# Altium integrated library ISSI SRAM Asynchronous SRAM High Speed Low Power.IntLib: 413 symbols (part 8 of 21)
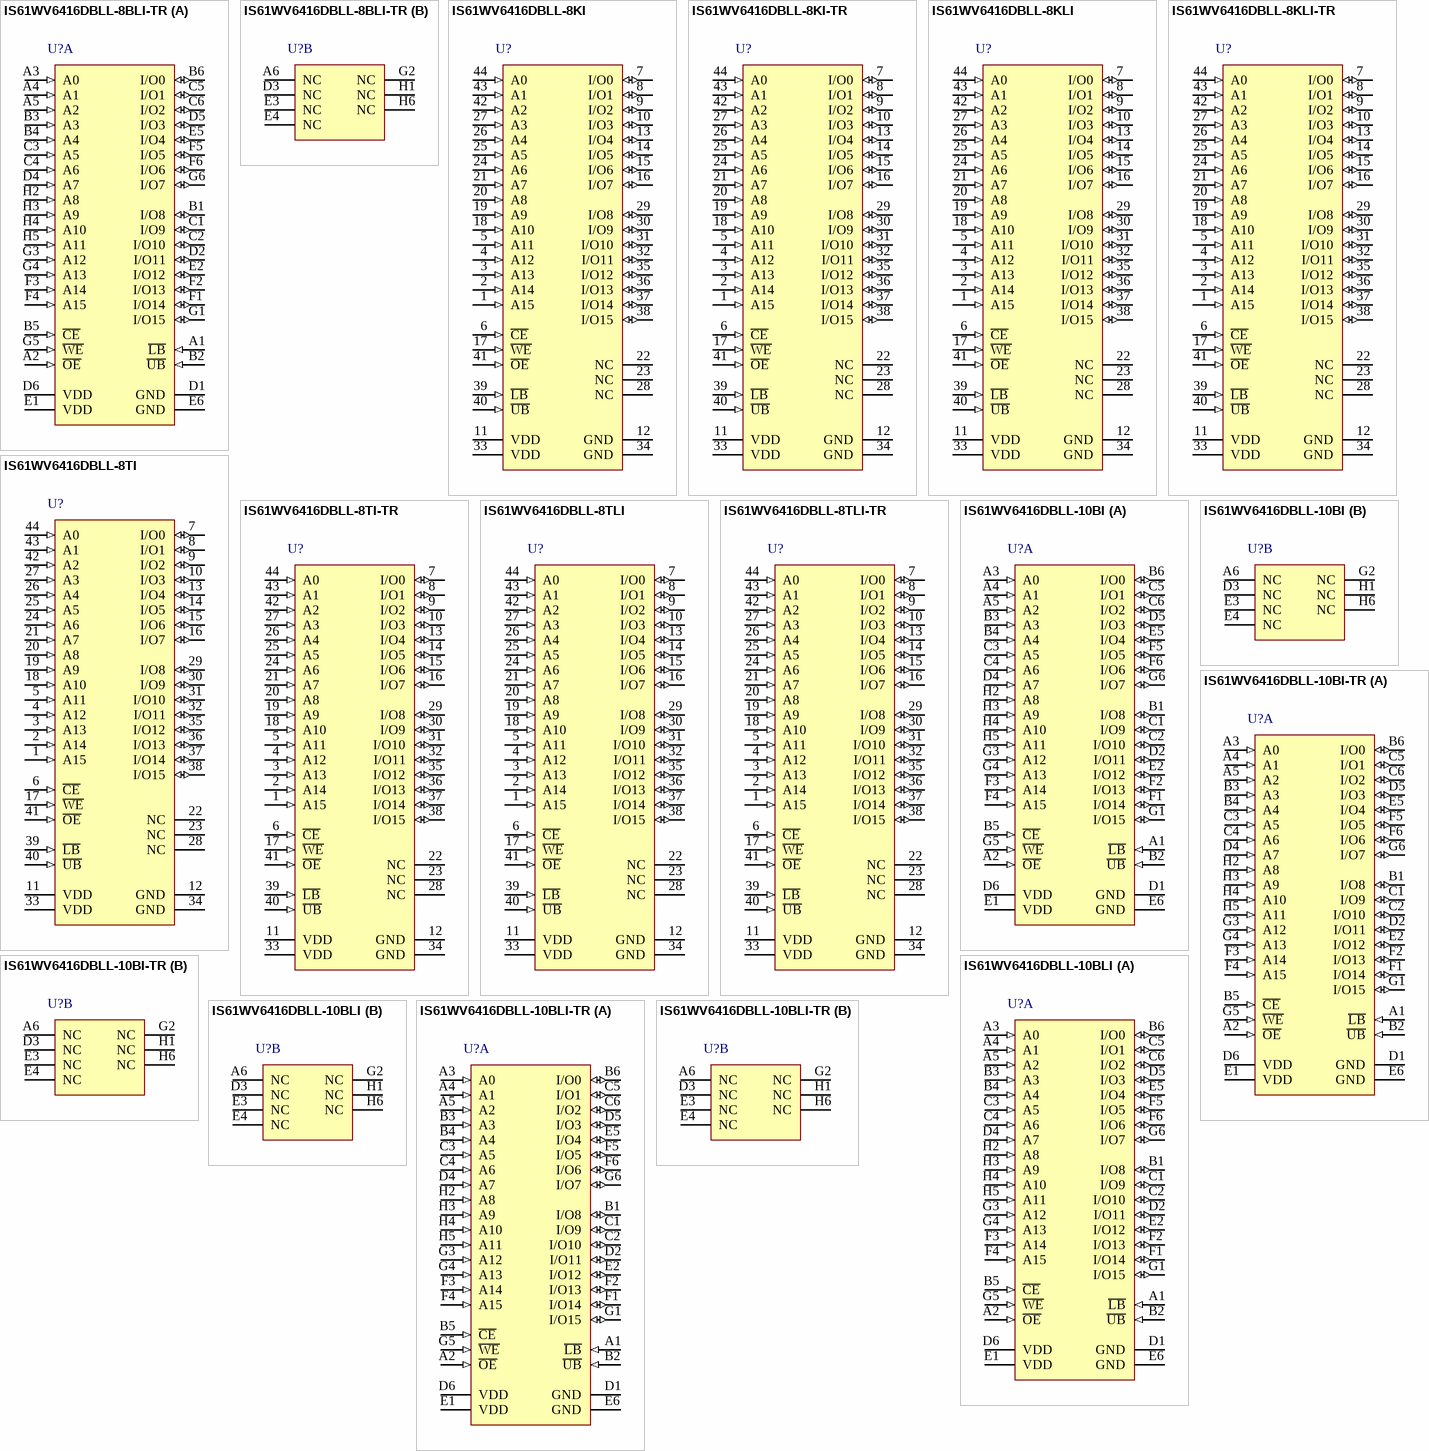
[diagram p35: symbols IS61WV6416DBLL-8BLI-TR to IS61WV6416DBLL-10BLI-TR]

## IS61WV6416DBLL-10BI
designator U?
1 M High Speed Asynchronous CMOS SRAM, 64 K x 16, -40 to 85 degC, 48-Pin BGA (TF-BGA-48); Manufacturer: Integrated Silicon Solution Inc (ISSI); PartNumber: IS61WV6416DBLL-10BI; Density: 1M; Organization: 64K x 16; Packing: Tray / Tube; Speed (ns): 10; DatasheetVersion: Rev. A; PackageVersion: Rev. C, 08/2008; PackageReference: TF-BGA-48; PackageDescription: 48-Pin 6 x 8 mm TF-BGA, Pitch 0.75 mm; Mounting Technology: Surface Mount; Code_JEDEC: MO-207; ComponentLink1Description: Manufacturer URL; ComponentLink1URL: http://www.issi.com/US/index.shtml; ComponentLink2Description: Datasheet; ComponentLink2URL: http://www.issi.com/WW/pdf/61-64WV6416DAxx-DBxx.pdf; ComponentLink3Description: Package Specification; ComponentLink3URL: http://www.issi.com/WW/pdf/61-64WV25616.pdf
footprint ISSI-TF-BGA-48-6000X8000DE (BGA, 48-Balls, Body 8x6mm, Pitch 0.75mm)
part A pins: A1 ~{LB} (in) "Lower-byte Control (I/O0-I/O7)", A2 ~{OE} (in) "Output Enable Input", A3 A0 (in) "Address Input", A4 A1 (in) "Address Input", A5 A2 (in) "Address Input", B1 I/O8 (io) "Data Input/Output", B2 ~{UB} (in) "Upper-byte Control (I/O8-I/O15)", B3 A3 (in) "Address Input", B4 A4 (in) "Address Input", B5 ~{CE} (in) "Chip Enable Input", B6 I/O0 (io) "Data Input/Output", C1 I/O9 (io) "Data Input/Output", C2 I/O10 (io) "Data Input/Output", C3 A5 (in) "Address Input", C4 A6 (in) "Address Input", C5 I/O1 (io) "Data Input/Output", C6 I/O2 (io) "Data Input/Output", D1 GND (power) "Ground", D2 I/O11 (io) "Data Input/Output", D4 A7 (in) "Address Input", D5 I/O3 (io) "Data Input/Output", D6 VDD (power) "Power", E1 VDD (power) "Power", E2 I/O12 (io) "Data Input/Output", E5 I/O4 (io) "Data Input/Output", E6 GND (power) "Ground", F1 I/O14 (io) "Data Input/Output", F2 I/O13 (io) "Data Input/Output", F3 A14 (in) "Address Input", F4 A15 (in) "Address Input", F5 I/O5 (io) "Data Input/Output", F6 I/O6 (io) "Data Input/Output", G1 I/O15 (io) "Data Input/Output", G3 A12 (in) "Address Input", G4 A13 (in) "Address Input", G5 ~{WE} (in) "Write Enable Input", G6 I/O7 (io) "Data Input/Output", H2 A8 (in) "Address Input", H3 A9 (in) "Address Input", H4 A10 (in) "Address Input", H5 A11 (in) "Address Input"
part B pins: A6 NC "No Connection", D3 NC "No Connection", E3 NC "No Connection", E4 NC "No Connection", G2 NC "No Connection", H1 NC "No Connection", H6 NC "No Connection"

## IS61WV6416DBLL-10BI-TR
designator U?
1 M High Speed Asynchronous CMOS SRAM, 64 K x 16, -40 to 85 degC, 48-Pin BGA (TF-BGA-48); Manufacturer: Integrated Silicon Solution Inc (ISSI); PartNumber: IS61WV6416DBLL-10BI-TR; Density: 1M; Organization: 64K x 16; Packing: Tape & Reel; Speed (ns): 10; DatasheetVersion: Rev. A; PackageVersion: Rev. C, 08/2008; PackageReference: TF-BGA-48; PackageDescription: 48-Pin 6 x 8 mm TF-BGA, Pitch 0.75 mm; Mounting Technology: Surface Mount; Code_JEDEC: MO-207; ComponentLink1Description: Manufacturer URL; ComponentLink1URL: http://www.issi.com/US/index.shtml; ComponentLink2Description: Datasheet; ComponentLink2URL: http://www.issi.com/WW/pdf/61-64WV6416DAxx-DBxx.pdf; ComponentLink3Description: Package Specification; ComponentLink3URL: http://www.issi.com/WW/pdf/61-64WV25616.pdf
footprint ISSI-TF-BGA-48-6000X8000DE (BGA, 48-Balls, Body 8x6mm, Pitch 0.75mm)
part A pins: A1 ~{LB} (in) "Lower-byte Control (I/O0-I/O7)", A2 ~{OE} (in) "Output Enable Input", A3 A0 (in) "Address Input", A4 A1 (in) "Address Input", A5 A2 (in) "Address Input", B1 I/O8 (io) "Data Input/Output", B2 ~{UB} (in) "Upper-byte Control (I/O8-I/O15)", B3 A3 (in) "Address Input", B4 A4 (in) "Address Input", B5 ~{CE} (in) "Chip Enable Input", B6 I/O0 (io) "Data Input/Output", C1 I/O9 (io) "Data Input/Output", C2 I/O10 (io) "Data Input/Output", C3 A5 (in) "Address Input", C4 A6 (in) "Address Input", C5 I/O1 (io) "Data Input/Output", C6 I/O2 (io) "Data Input/Output", D1 GND (power) "Ground", D2 I/O11 (io) "Data Input/Output", D4 A7 (in) "Address Input", D5 I/O3 (io) "Data Input/Output", D6 VDD (power) "Power", E1 VDD (power) "Power", E2 I/O12 (io) "Data Input/Output", E5 I/O4 (io) "Data Input/Output", E6 GND (power) "Ground", F1 I/O14 (io) "Data Input/Output", F2 I/O13 (io) "Data Input/Output", F3 A14 (in) "Address Input", F4 A15 (in) "Address Input", F5 I/O5 (io) "Data Input/Output", F6 I/O6 (io) "Data Input/Output", G1 I/O15 (io) "Data Input/Output", G3 A12 (in) "Address Input", G4 A13 (in) "Address Input", G5 ~{WE} (in) "Write Enable Input", G6 I/O7 (io) "Data Input/Output", H2 A8 (in) "Address Input", H3 A9 (in) "Address Input", H4 A10 (in) "Address Input", H5 A11 (in) "Address Input"
part B pins: A6 NC "No Connection", D3 NC "No Connection", E3 NC "No Connection", E4 NC "No Connection", G2 NC "No Connection", H1 NC "No Connection", H6 NC "No Connection"

## IS61WV6416DBLL-10BLI
designator U?
1 M High Speed Asynchronous CMOS SRAM, 64 K x 16, -40 to 85 degC, 48-Pin BGA (TF-BGA-48), Pb-Free; Manufacturer: Integrated Silicon Solution Inc (ISSI); PartNumber: IS61WV6416DBLL-10BLI; Density: 1M; Organization: 64K x 16; Packing: Tray / Tube; Speed (ns): 10; DatasheetVersion: Rev. A; PackageVersion: Rev. C, 08/2008; PackageReference: TF-BGA-48; PackageDescription: 48-Pin 6 x 8 mm TF-BGA, Pitch 0.75 mm; Supplier 1: Mouser; Supplier Part Number 1: 870-61WV646DBLL10BLI; RoHS: Pb-Free; Mounting Technology: Surface Mount; Code_JEDEC: MO-207; ComponentLink1Description: Manufacturer URL; ComponentLink1URL: http://www.issi.com/US/index.shtml; ComponentLink2Description: Datasheet; ComponentLink2URL: http://www.issi.com/WW/pdf/61-64WV6416DAxx-DBxx.pdf; ComponentLink3Description: Package Specification; ComponentLink3URL: http://www.issi.com/WW/pdf/61-64WV25616.pdf
footprint ISSI-TF-BGA-48-6000X8000DE (BGA, 48-Balls, Body 8x6mm, Pitch 0.75mm)
part A pins: A1 ~{LB} (in) "Lower-byte Control (I/O0-I/O7)", A2 ~{OE} (in) "Output Enable Input", A3 A0 (in) "Address Input", A4 A1 (in) "Address Input", A5 A2 (in) "Address Input", B1 I/O8 (io) "Data Input/Output", B2 ~{UB} (in) "Upper-byte Control (I/O8-I/O15)", B3 A3 (in) "Address Input", B4 A4 (in) "Address Input", B5 ~{CE} (in) "Chip Enable Input", B6 I/O0 (io) "Data Input/Output", C1 I/O9 (io) "Data Input/Output", C2 I/O10 (io) "Data Input/Output", C3 A5 (in) "Address Input", C4 A6 (in) "Address Input", C5 I/O1 (io) "Data Input/Output", C6 I/O2 (io) "Data Input/Output", D1 GND (power) "Ground", D2 I/O11 (io) "Data Input/Output", D4 A7 (in) "Address Input", D5 I/O3 (io) "Data Input/Output", D6 VDD (power) "Power", E1 VDD (power) "Power", E2 I/O12 (io) "Data Input/Output", E5 I/O4 (io) "Data Input/Output", E6 GND (power) "Ground", F1 I/O14 (io) "Data Input/Output", F2 I/O13 (io) "Data Input/Output", F3 A14 (in) "Address Input", F4 A15 (in) "Address Input", F5 I/O5 (io) "Data Input/Output", F6 I/O6 (io) "Data Input/Output", G1 I/O15 (io) "Data Input/Output", G3 A12 (in) "Address Input", G4 A13 (in) "Address Input", G5 ~{WE} (in) "Write Enable Input", G6 I/O7 (io) "Data Input/Output", H2 A8 (in) "Address Input", H3 A9 (in) "Address Input", H4 A10 (in) "Address Input", H5 A11 (in) "Address Input"
part B pins: A6 NC "No Connection", D3 NC "No Connection", E3 NC "No Connection", E4 NC "No Connection", G2 NC "No Connection", H1 NC "No Connection", H6 NC "No Connection"

## IS61WV6416DBLL-10BLI-TR
designator U?
1 M High Speed Asynchronous CMOS SRAM, 64 K x 16, -40 to 85 degC, 48-Pin BGA (TF-BGA-48), Pb-Free; Manufacturer: Integrated Silicon Solution Inc (ISSI); PartNumber: IS61WV6416DBLL-10BLI-TR; Density: 1M; Organization: 64K x 16; Packing: Tape & Reel; Speed (ns): 10; DatasheetVersion: Rev. A; PackageVersion: Rev. C, 08/2008; PackageReference: TF-BGA-48; PackageDescription: 48-Pin 6 x 8 mm TF-BGA, Pitch 0.75 mm; Supplier 1: Mouser; Supplier Part Number 1: 870-61WV66DBLL10BLIT; RoHS: Pb-Free; Mounting Technology: Surface Mount; Code_JEDEC: MO-207; ComponentLink1Description: Manufacturer URL; ComponentLink1URL: http://www.issi.com/US/index.shtml; ComponentLink2Description: Datasheet; ComponentLink2URL: http://www.issi.com/WW/pdf/61-64WV6416DAxx-DBxx.pdf; ComponentLink3Description: Package Specification; ComponentLink3URL: http://www.issi.com/WW/pdf/61-64WV25616.pdf
footprint ISSI-TF-BGA-48-6000X8000DE (BGA, 48-Balls, Body 8x6mm, Pitch 0.75mm)
part A pins: A1 ~{LB} (in) "Lower-byte Control (I/O0-I/O7)", A2 ~{OE} (in) "Output Enable Input", A3 A0 (in) "Address Input", A4 A1 (in) "Address Input", A5 A2 (in) "Address Input", B1 I/O8 (io) "Data Input/Output", B2 ~{UB} (in) "Upper-byte Control (I/O8-I/O15)", B3 A3 (in) "Address Input", B4 A4 (in) "Address Input", B5 ~{CE} (in) "Chip Enable Input", B6 I/O0 (io) "Data Input/Output", C1 I/O9 (io) "Data Input/Output", C2 I/O10 (io) "Data Input/Output", C3 A5 (in) "Address Input", C4 A6 (in) "Address Input", C5 I/O1 (io) "Data Input/Output", C6 I/O2 (io) "Data Input/Output", D1 GND (power) "Ground", D2 I/O11 (io) "Data Input/Output", D4 A7 (in) "Address Input", D5 I/O3 (io) "Data Input/Output", D6 VDD (power) "Power", E1 VDD (power) "Power", E2 I/O12 (io) "Data Input/Output", E5 I/O4 (io) "Data Input/Output", E6 GND (power) "Ground", F1 I/O14 (io) "Data Input/Output", F2 I/O13 (io) "Data Input/Output", F3 A14 (in) "Address Input", F4 A15 (in) "Address Input", F5 I/O5 (io) "Data Input/Output", F6 I/O6 (io) "Data Input/Output", G1 I/O15 (io) "Data Input/Output", G3 A12 (in) "Address Input", G4 A13 (in) "Address Input", G5 ~{WE} (in) "Write Enable Input", G6 I/O7 (io) "Data Input/Output", H2 A8 (in) "Address Input", H3 A9 (in) "Address Input", H4 A10 (in) "Address Input", H5 A11 (in) "Address Input"
part B pins: A6 NC "No Connection", D3 NC "No Connection", E3 NC "No Connection", E4 NC "No Connection", G2 NC "No Connection", H1 NC "No Connection", H6 NC "No Connection"

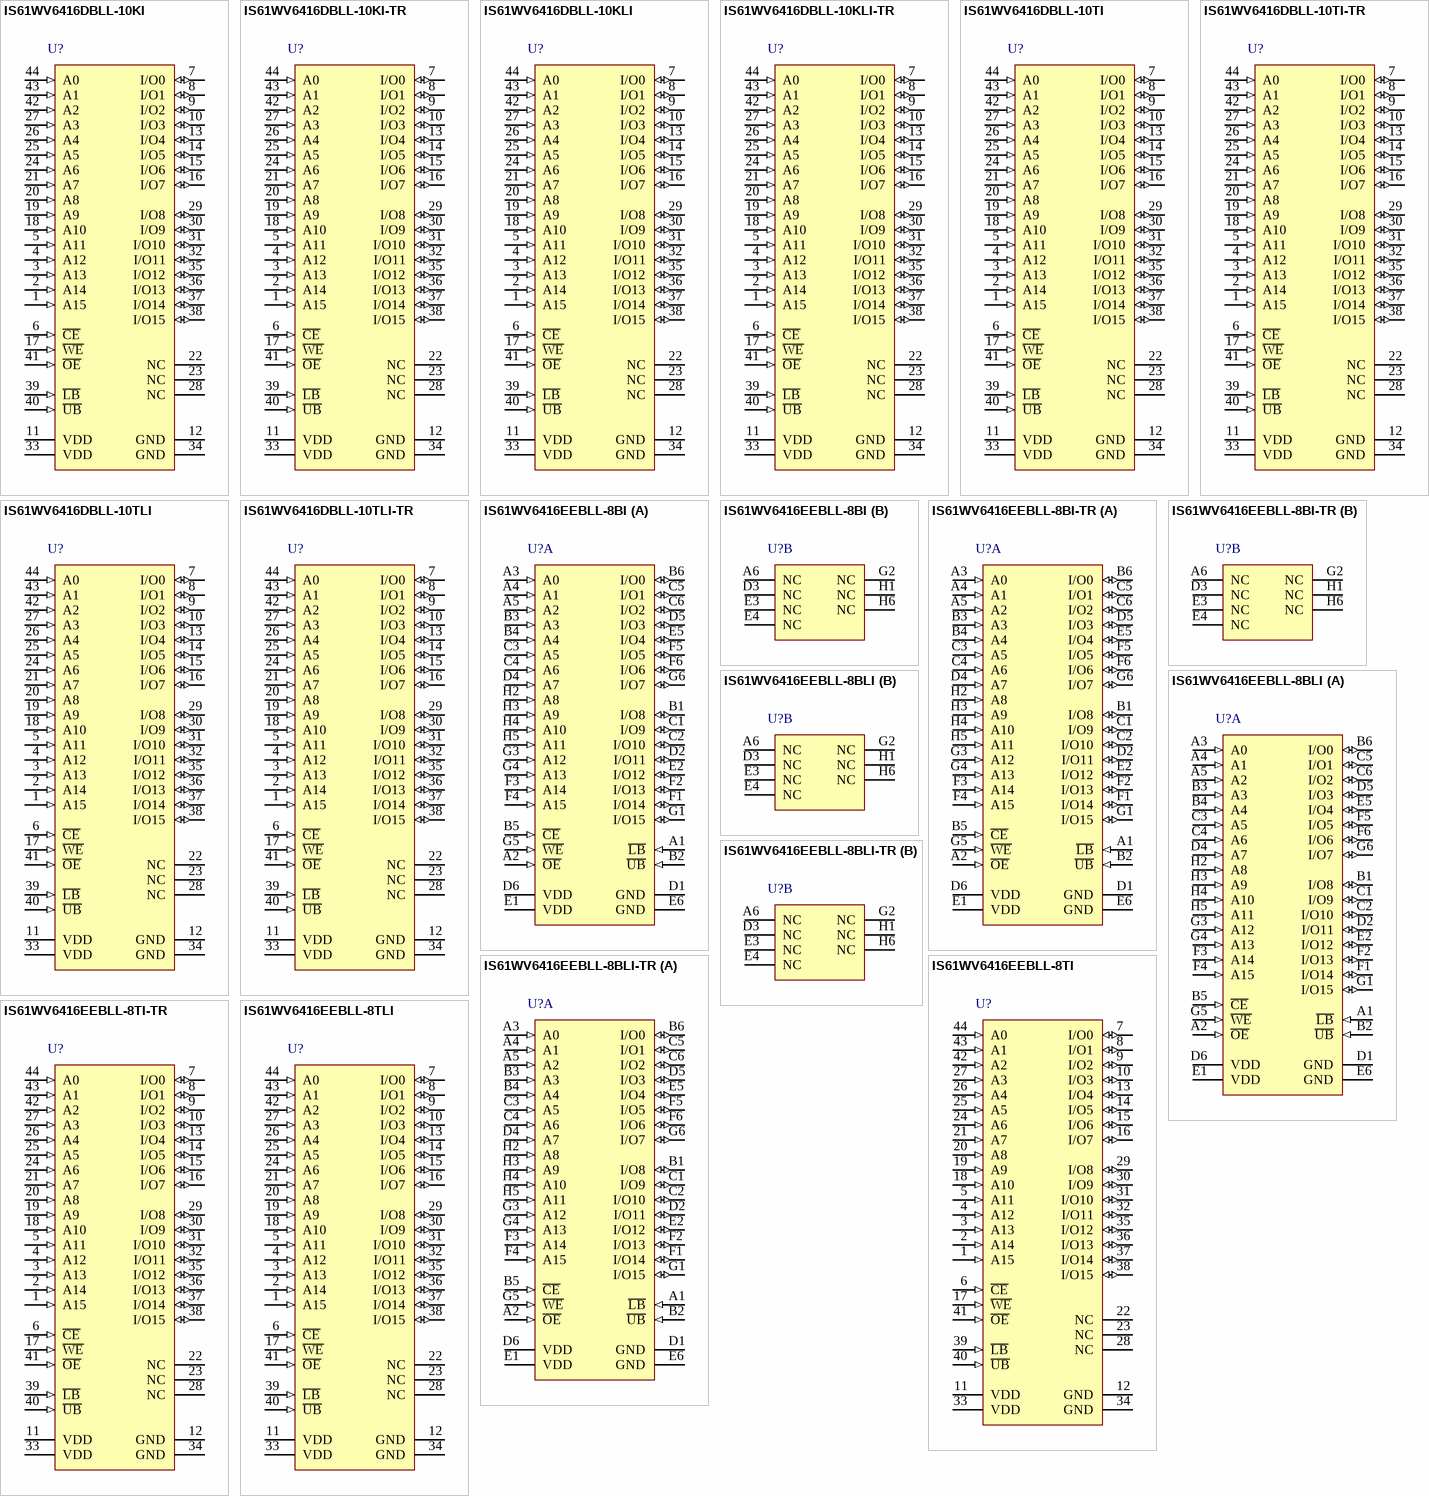
[diagram p11: symbols IS61WV6416DBLL-10KI to IS61WV6416EEBLL-8TLI]

## IS61WV6416DBLL-10KI
designator U?
1 M High Speed Asynchronous CMOS SRAM, 64 K x 16, -40 to 85 degC, 44-Pin SOJ (SOJ-44); Manufacturer: Integrated Silicon Solution Inc (ISSI); PartNumber: IS61WV6416DBLL-10KI; Density: 1M; Organization: 64K x 16; Packing: Tray / Tube; Speed (ns): 10; DatasheetVersion: Rev. A; PackageVersion: Rev. E, 12/2007; PackageReference: SOJ-44; PackageDescription: 44-Pin 400 mil SOJ, Body 28.58 x 10.16 mm, Pitch 1.27 mm; Mounting Technology: Surface Mount; Code_JEDEC: MS-027; ComponentLink1Description: Manufacturer URL; ComponentLink1URL: http://www.issi.com/US/index.shtml; ComponentLink2Description: Datasheet; ComponentLink2URL: http://www.issi.com/WW/pdf/61-64WV6416DAxx-DBxx.pdf; ComponentLink3Description: Package Specification; ComponentLink3URL: http://www.issi.com/WW/pdf/61-64WV25616.pdf
footprint ISSI-SOJ-44_N (SOJ, 44-Leads, Body 28.7x10.29mm, Pitch 1.27mm, IPC Medium Density)
pins: 1 A15 (in) "Address Inputs", 2 A14 (in) "Address Inputs", 3 A13 (in) "Address Inputs", 4 A12 (in) "Address Inputs", 5 A11 (in) "Address Inputs", 6 ~{CE} (in) "Chip Enable Input", 7 I/O0 (io) "Data Inputs/Outputs", 8 I/O1 (io) "Data Inputs/Outputs", 9 I/O2 (io) "Data Inputs/Outputs", 10 I/O3 (io) "Data Inputs/Outputs", 11 VDD (power) "Power", 12 GND (power) "Ground", 13 I/O4 (io) "Data Inputs/Outputs", 14 I/O5 (io) "Data Inputs/Outputs", 15 I/O6 (io) "Data Inputs/Outputs", 16 I/O7 (io) "Data Inputs/Outputs", 17 ~{WE} (in) "Write Enable Input", 18 A10 (in) "Address Inputs", 19 A9 (in) "Address Inputs", 20 A8 (in) "Address Inputs", 21 A7 (in) "Address Inputs", 22 NC "No Connection", 23 NC "No Connection", 24 A6 (in) "Address Inputs", 25 A5 (in) "Address Inputs", 26 A4 (in) "Address Inputs", 27 A3 (in) "Address Inputs", 28 NC "No Connection", 29 I/O8 (io) "Data Inputs/Outputs", 30 I/O9 (io) "Data Inputs/Outputs", 31 I/O10 (io) "Data Inputs/Outputs", 32 I/O11 (io) "Data Inputs/Outputs", 33 VDD (power) "Power", 34 GND (power) "Ground", 35 I/O12 (io) "Data Inputs/Outputs", 36 I/O13 (io) "Data Inputs/Outputs", 37 I/O14 (io) "Data Inputs/Outputs", 38 I/O15 (io) "Data Inputs/Outputs", 39 ~{LB} (in) "Lower-byte Control (I/O0-I/O7)", 40 ~{UB} (in) "Upper-byte Control (I/O8-I/O15)", 41 ~{OE} (in) "Output Enable Input", 42 A2 (in) "Address Inputs", 43 A1 (in) "Address Inputs", 44 A0 (in) "Address Inputs"

## IS61WV6416DBLL-10KI-TR
designator U?
1 M High Speed Asynchronous CMOS SRAM, 64 K x 16, -40 to 85 degC, 44-Pin SOJ (SOJ-44); Manufacturer: Integrated Silicon Solution Inc (ISSI); PartNumber: IS61WV6416DBLL-10KI-TR; Density: 1M; Organization: 64K x 16; Packing: Tape & Reel; Speed (ns): 10; DatasheetVersion: Rev. A; PackageVersion: Rev. E, 12/2007; PackageReference: SOJ-44; PackageDescription: 44-Pin 400 mil SOJ, Body 28.58 x 10.16 mm, Pitch 1.27 mm; Mounting Technology: Surface Mount; Code_JEDEC: MS-027; ComponentLink1Description: Manufacturer URL; ComponentLink1URL: http://www.issi.com/US/index.shtml; ComponentLink2Description: Datasheet; ComponentLink2URL: http://www.issi.com/WW/pdf/61-64WV6416DAxx-DBxx.pdf; ComponentLink3Description: Package Specification; ComponentLink3URL: http://www.issi.com/WW/pdf/61-64WV25616.pdf
footprint ISSI-SOJ-44_N (SOJ, 44-Leads, Body 28.7x10.29mm, Pitch 1.27mm, IPC Medium Density)
pins: 1 A15 (in) "Address Inputs", 2 A14 (in) "Address Inputs", 3 A13 (in) "Address Inputs", 4 A12 (in) "Address Inputs", 5 A11 (in) "Address Inputs", 6 ~{CE} (in) "Chip Enable Input", 7 I/O0 (io) "Data Inputs/Outputs", 8 I/O1 (io) "Data Inputs/Outputs", 9 I/O2 (io) "Data Inputs/Outputs", 10 I/O3 (io) "Data Inputs/Outputs", 11 VDD (power) "Power", 12 GND (power) "Ground", 13 I/O4 (io) "Data Inputs/Outputs", 14 I/O5 (io) "Data Inputs/Outputs", 15 I/O6 (io) "Data Inputs/Outputs", 16 I/O7 (io) "Data Inputs/Outputs", 17 ~{WE} (in) "Write Enable Input", 18 A10 (in) "Address Inputs", 19 A9 (in) "Address Inputs", 20 A8 (in) "Address Inputs", 21 A7 (in) "Address Inputs", 22 NC "No Connection", 23 NC "No Connection", 24 A6 (in) "Address Inputs", 25 A5 (in) "Address Inputs", 26 A4 (in) "Address Inputs", 27 A3 (in) "Address Inputs", 28 NC "No Connection", 29 I/O8 (io) "Data Inputs/Outputs", 30 I/O9 (io) "Data Inputs/Outputs", 31 I/O10 (io) "Data Inputs/Outputs", 32 I/O11 (io) "Data Inputs/Outputs", 33 VDD (power) "Power", 34 GND (power) "Ground", 35 I/O12 (io) "Data Inputs/Outputs", 36 I/O13 (io) "Data Inputs/Outputs", 37 I/O14 (io) "Data Inputs/Outputs", 38 I/O15 (io) "Data Inputs/Outputs", 39 ~{LB} (in) "Lower-byte Control (I/O0-I/O7)", 40 ~{UB} (in) "Upper-byte Control (I/O8-I/O15)", 41 ~{OE} (in) "Output Enable Input", 42 A2 (in) "Address Inputs", 43 A1 (in) "Address Inputs", 44 A0 (in) "Address Inputs"

## IS61WV6416DBLL-10KLI
designator U?
1 M High Speed Asynchronous CMOS SRAM, 64 K x 16, -40 to 85 degC, 44-Pin SOJ (SOJ-44), Pb-Free; Manufacturer: Integrated Silicon Solution Inc (ISSI); PartNumber: IS61WV6416DBLL-10KLI; Density: 1M; Organization: 64K x 16; Packing: Tray / Tube; Speed (ns): 10; DatasheetVersion: Rev. A; PackageVersion: Rev. E, 12/2007; PackageReference: SOJ-44; PackageDescription: 44-Pin 400 mil SOJ, Body 28.58 x 10.16 mm, Pitch 1.27 mm; RoHS: Pb-Free; Mounting Technology: Surface Mount; Code_JEDEC: MS-027; ComponentLink1Description: Manufacturer URL; ComponentLink1URL: http://www.issi.com/US/index.shtml; ComponentLink2Description: Datasheet; ComponentLink2URL: http://www.issi.com/WW/pdf/61-64WV6416DAxx-DBxx.pdf; ComponentLink3Description: Package Specification; ComponentLink3URL: http://www.issi.com/WW/pdf/61-64WV25616.pdf
footprint ISSI-SOJ-44_N (SOJ, 44-Leads, Body 28.7x10.29mm, Pitch 1.27mm, IPC Medium Density)
pins: 1 A15 (in) "Address Inputs", 2 A14 (in) "Address Inputs", 3 A13 (in) "Address Inputs", 4 A12 (in) "Address Inputs", 5 A11 (in) "Address Inputs", 6 ~{CE} (in) "Chip Enable Input", 7 I/O0 (io) "Data Inputs/Outputs", 8 I/O1 (io) "Data Inputs/Outputs", 9 I/O2 (io) "Data Inputs/Outputs", 10 I/O3 (io) "Data Inputs/Outputs", 11 VDD (power) "Power", 12 GND (power) "Ground", 13 I/O4 (io) "Data Inputs/Outputs", 14 I/O5 (io) "Data Inputs/Outputs", 15 I/O6 (io) "Data Inputs/Outputs", 16 I/O7 (io) "Data Inputs/Outputs", 17 ~{WE} (in) "Write Enable Input", 18 A10 (in) "Address Inputs", 19 A9 (in) "Address Inputs", 20 A8 (in) "Address Inputs", 21 A7 (in) "Address Inputs", 22 NC "No Connection", 23 NC "No Connection", 24 A6 (in) "Address Inputs", 25 A5 (in) "Address Inputs", 26 A4 (in) "Address Inputs", 27 A3 (in) "Address Inputs", 28 NC "No Connection", 29 I/O8 (io) "Data Inputs/Outputs", 30 I/O9 (io) "Data Inputs/Outputs", 31 I/O10 (io) "Data Inputs/Outputs", 32 I/O11 (io) "Data Inputs/Outputs", 33 VDD (power) "Power", 34 GND (power) "Ground", 35 I/O12 (io) "Data Inputs/Outputs", 36 I/O13 (io) "Data Inputs/Outputs", 37 I/O14 (io) "Data Inputs/Outputs", 38 I/O15 (io) "Data Inputs/Outputs", 39 ~{LB} (in) "Lower-byte Control (I/O0-I/O7)", 40 ~{UB} (in) "Upper-byte Control (I/O8-I/O15)", 41 ~{OE} (in) "Output Enable Input", 42 A2 (in) "Address Inputs", 43 A1 (in) "Address Inputs", 44 A0 (in) "Address Inputs"

## IS61WV6416DBLL-10KLI-TR
designator U?
1 M High Speed Asynchronous CMOS SRAM, 64 K x 16, -40 to 85 degC, 44-Pin SOJ (SOJ-44), Pb-Free; Manufacturer: Integrated Silicon Solution Inc (ISSI); PartNumber: IS61WV6416DBLL-10KLI-TR; Density: 1M; Organization: 64K x 16; Packing: Tape & Reel; Speed (ns): 10; DatasheetVersion: Rev. A; PackageVersion: Rev. E, 12/2007; PackageReference: SOJ-44; PackageDescription: 44-Pin 400 mil SOJ, Body 28.58 x 10.16 mm, Pitch 1.27 mm; RoHS: Pb-Free; Mounting Technology: Surface Mount; Code_JEDEC: MS-027; ComponentLink1Description: Manufacturer URL; ComponentLink1URL: http://www.issi.com/US/index.shtml; ComponentLink2Description: Datasheet; ComponentLink2URL: http://www.issi.com/WW/pdf/61-64WV6416DAxx-DBxx.pdf; ComponentLink3Description: Package Specification; ComponentLink3URL: http://www.issi.com/WW/pdf/61-64WV25616.pdf
footprint ISSI-SOJ-44_N (SOJ, 44-Leads, Body 28.7x10.29mm, Pitch 1.27mm, IPC Medium Density)
pins: 1 A15 (in) "Address Inputs", 2 A14 (in) "Address Inputs", 3 A13 (in) "Address Inputs", 4 A12 (in) "Address Inputs", 5 A11 (in) "Address Inputs", 6 ~{CE} (in) "Chip Enable Input", 7 I/O0 (io) "Data Inputs/Outputs", 8 I/O1 (io) "Data Inputs/Outputs", 9 I/O2 (io) "Data Inputs/Outputs", 10 I/O3 (io) "Data Inputs/Outputs", 11 VDD (power) "Power", 12 GND (power) "Ground", 13 I/O4 (io) "Data Inputs/Outputs", 14 I/O5 (io) "Data Inputs/Outputs", 15 I/O6 (io) "Data Inputs/Outputs", 16 I/O7 (io) "Data Inputs/Outputs", 17 ~{WE} (in) "Write Enable Input", 18 A10 (in) "Address Inputs", 19 A9 (in) "Address Inputs", 20 A8 (in) "Address Inputs", 21 A7 (in) "Address Inputs", 22 NC "No Connection", 23 NC "No Connection", 24 A6 (in) "Address Inputs", 25 A5 (in) "Address Inputs", 26 A4 (in) "Address Inputs", 27 A3 (in) "Address Inputs", 28 NC "No Connection", 29 I/O8 (io) "Data Inputs/Outputs", 30 I/O9 (io) "Data Inputs/Outputs", 31 I/O10 (io) "Data Inputs/Outputs", 32 I/O11 (io) "Data Inputs/Outputs", 33 VDD (power) "Power", 34 GND (power) "Ground", 35 I/O12 (io) "Data Inputs/Outputs", 36 I/O13 (io) "Data Inputs/Outputs", 37 I/O14 (io) "Data Inputs/Outputs", 38 I/O15 (io) "Data Inputs/Outputs", 39 ~{LB} (in) "Lower-byte Control (I/O0-I/O7)", 40 ~{UB} (in) "Upper-byte Control (I/O8-I/O15)", 41 ~{OE} (in) "Output Enable Input", 42 A2 (in) "Address Inputs", 43 A1 (in) "Address Inputs", 44 A0 (in) "Address Inputs"

## IS61WV6416DBLL-10TI
designator U?
1 M High Speed Asynchronous CMOS SRAM, 64 K x 16, -40 to 85 degC, 44-Pin SOP (TSOP-2-44); Manufacturer: Integrated Silicon Solution Inc (ISSI); PartNumber: IS61WV6416DBLL-10TI; Density: 1M; Organization: 64K x 16; Packing: Tray / Tube; Speed (ns): 10; DatasheetVersion: Rev. A; PackageVersion: Rev. F, 06/2008; PackageReference: TSOP-2-44; PackageDescription: 44-Pin 400 mil TSOP-2, Body 18.41 x 10.16 mm, Pitch 0.8 mm; Mounting Technology: Surface Mount; ComponentLink1Description: Manufacturer URL; ComponentLink1URL: http://www.issi.com/US/index.shtml; ComponentLink2Description: Datasheet; ComponentLink2URL: http://www.issi.com/WW/pdf/61-64WV6416DAxx-DBxx.pdf; ComponentLink3Description: Package Specification; ComponentLink3URL: http://www.issi.com/WW/pdf/61-64WV6416EEBLL.pdf
footprint ISSI-TSOP-2-44_N (SOP, 44-Leads, Body 18.5x10.3mm, Pitch 0.8mm, IPC Medium Density)
pins: 1 A15 (in) "Address Input", 2 A14 (in) "Address Input", 3 A13 (in) "Address Input", 4 A12 (in) "Address Input", 5 A11 (in) "Address Input", 6 ~{CE} (in) "Chip Enable Input", 7 I/O0 (io) "Data Input/Output", 8 I/O1 (io) "Data Input/Output", 9 I/O2 (io) "Data Input/Output", 10 I/O3 (io) "Data Input/Output", 11 VDD (power) "Power", 12 GND (power) "Ground", 13 I/O4 (io) "Data Input/Output", 14 I/O5 (io) "Data Input/Output", 15 I/O6 (io) "Data Input/Output", 16 I/O7 (io) "Data Input/Output", 17 ~{WE} (in) "Write Enable Input", 18 A10 (in) "Address Input", 19 A9 (in) "Address Input", 20 A8 (in) "Address Input", 21 A7 (in) "Address Input", 22 NC "No Connection", 23 NC "No Connection", 24 A6 (in) "Address Input", 25 A5 (in) "Address Input", 26 A4 (in) "Address Input", 27 A3 (in) "Address Input", 28 NC "No Connection", 29 I/O8 (io) "Data Input/Output", 30 I/O9 (io) "Data Input/Output", 31 I/O10 (io) "Data Input/Output", 32 I/O11 (io) "Data Input/Output", 33 VDD (power) "Power", 34 GND (power) "Ground", 35 I/O12 (io) "Data Input/Output", 36 I/O13 (io) "Data Input/Output", 37 I/O14 (io) "Data Input/Output", 38 I/O15 (io) "Data Input/Output", 39 ~{LB} (in) "Lower-byte Control (I/O0-I/O7)", 40 ~{UB} (in) "Upper-byte Control (I/O8-I/O15)", 41 ~{OE} (in) "Output Enable Input", 42 A2 (in) "Address Input", 43 A1 (in) "Address Input", 44 A0 (in) "Address Input"

## IS61WV6416DBLL-10TI-TR
designator U?
1 M High Speed Asynchronous CMOS SRAM, 64 K x 16, -40 to 85 degC, 44-Pin SOP (TSOP-2-44); Manufacturer: Integrated Silicon Solution Inc (ISSI); PartNumber: IS61WV6416DBLL-10TI-TR; Density: 1M; Organization: 64K x 16; Packing: Tape & Reel; Speed (ns): 10; DatasheetVersion: Rev. A; PackageVersion: Rev. F, 06/2008; PackageReference: TSOP-2-44; PackageDescription: 44-Pin 400 mil TSOP-2, Body 18.41 x 10.16 mm, Pitch 0.8 mm; Mounting Technology: Surface Mount; ComponentLink1Description: Manufacturer URL; ComponentLink1URL: http://www.issi.com/US/index.shtml; ComponentLink2Description: Datasheet; ComponentLink2URL: http://www.issi.com/WW/pdf/61-64WV6416DAxx-DBxx.pdf; ComponentLink3Description: Package Specification; ComponentLink3URL: http://www.issi.com/WW/pdf/61-64WV6416EEBLL.pdf
footprint ISSI-TSOP-2-44_N (SOP, 44-Leads, Body 18.5x10.3mm, Pitch 0.8mm, IPC Medium Density)
pins: 1 A15 (in) "Address Input", 2 A14 (in) "Address Input", 3 A13 (in) "Address Input", 4 A12 (in) "Address Input", 5 A11 (in) "Address Input", 6 ~{CE} (in) "Chip Enable Input", 7 I/O0 (io) "Data Input/Output", 8 I/O1 (io) "Data Input/Output", 9 I/O2 (io) "Data Input/Output", 10 I/O3 (io) "Data Input/Output", 11 VDD (power) "Power", 12 GND (power) "Ground", 13 I/O4 (io) "Data Input/Output", 14 I/O5 (io) "Data Input/Output", 15 I/O6 (io) "Data Input/Output", 16 I/O7 (io) "Data Input/Output", 17 ~{WE} (in) "Write Enable Input", 18 A10 (in) "Address Input", 19 A9 (in) "Address Input", 20 A8 (in) "Address Input", 21 A7 (in) "Address Input", 22 NC "No Connection", 23 NC "No Connection", 24 A6 (in) "Address Input", 25 A5 (in) "Address Input", 26 A4 (in) "Address Input", 27 A3 (in) "Address Input", 28 NC "No Connection", 29 I/O8 (io) "Data Input/Output", 30 I/O9 (io) "Data Input/Output", 31 I/O10 (io) "Data Input/Output", 32 I/O11 (io) "Data Input/Output", 33 VDD (power) "Power", 34 GND (power) "Ground", 35 I/O12 (io) "Data Input/Output", 36 I/O13 (io) "Data Input/Output", 37 I/O14 (io) "Data Input/Output", 38 I/O15 (io) "Data Input/Output", 39 ~{LB} (in) "Lower-byte Control (I/O0-I/O7)", 40 ~{UB} (in) "Upper-byte Control (I/O8-I/O15)", 41 ~{OE} (in) "Output Enable Input", 42 A2 (in) "Address Input", 43 A1 (in) "Address Input", 44 A0 (in) "Address Input"

## IS61WV6416DBLL-10TLI
designator U?
1 M High Speed Asynchronous CMOS SRAM, 64 K x 16, -40 to 85 degC, 44-Pin SOP (TSOP-2-44), Pb-Free; Manufacturer: Integrated Silicon Solution Inc (ISSI); PartNumber: IS61WV6416DBLL-10TLI; Density: 1M; Organization: 64K x 16; Packing: Tray / Tube; Speed (ns): 10; DatasheetVersion: Rev. A; PackageVersion: Rev. F, 06/2008; PackageReference: TSOP-2-44; PackageDescription: 44-Pin 400 mil TSOP-2, Body 18.41 x 10.16 mm, Pitch 0.8 mm; Supplier 1: Digi-Key; Supplier Part Number 1: 706-1134-ND; Supplier 2: Newark; Supplier Part Number 2: 24T8347; Supplier 3: Mouser; Supplier Part Number 3: 870-61WV6416DBL10TLI; RoHS: Pb-Free; Mounting Technology: Surface Mount; ComponentLink1Description: Manufacturer URL; ComponentLink1URL: http://www.issi.com/US/index.shtml; ComponentLink2Description: Datasheet; ComponentLink2URL: http://www.issi.com/WW/pdf/61-64WV6416DAxx-DBxx.pdf; ComponentLink3Description: Package Specification; ComponentLink3URL: http://www.issi.com/WW/pdf/61-64WV6416EEBLL.pdf
footprint ISSI-TSOP-2-44_N (SOP, 44-Leads, Body 18.5x10.3mm, Pitch 0.8mm, IPC Medium Density)
pins: 1 A15 (in) "Address Input", 2 A14 (in) "Address Input", 3 A13 (in) "Address Input", 4 A12 (in) "Address Input", 5 A11 (in) "Address Input", 6 ~{CE} (in) "Chip Enable Input", 7 I/O0 (io) "Data Input/Output", 8 I/O1 (io) "Data Input/Output", 9 I/O2 (io) "Data Input/Output", 10 I/O3 (io) "Data Input/Output", 11 VDD (power) "Power", 12 GND (power) "Ground", 13 I/O4 (io) "Data Input/Output", 14 I/O5 (io) "Data Input/Output", 15 I/O6 (io) "Data Input/Output", 16 I/O7 (io) "Data Input/Output", 17 ~{WE} (in) "Write Enable Input", 18 A10 (in) "Address Input", 19 A9 (in) "Address Input", 20 A8 (in) "Address Input", 21 A7 (in) "Address Input", 22 NC "No Connection", 23 NC "No Connection", 24 A6 (in) "Address Input", 25 A5 (in) "Address Input", 26 A4 (in) "Address Input", 27 A3 (in) "Address Input", 28 NC "No Connection", 29 I/O8 (io) "Data Input/Output", 30 I/O9 (io) "Data Input/Output", 31 I/O10 (io) "Data Input/Output", 32 I/O11 (io) "Data Input/Output", 33 VDD (power) "Power", 34 GND (power) "Ground", 35 I/O12 (io) "Data Input/Output", 36 I/O13 (io) "Data Input/Output", 37 I/O14 (io) "Data Input/Output", 38 I/O15 (io) "Data Input/Output", 39 ~{LB} (in) "Lower-byte Control (I/O0-I/O7)", 40 ~{UB} (in) "Upper-byte Control (I/O8-I/O15)", 41 ~{OE} (in) "Output Enable Input", 42 A2 (in) "Address Input", 43 A1 (in) "Address Input", 44 A0 (in) "Address Input"

## IS61WV6416DBLL-10TLI-TR
designator U?
1 M High Speed Asynchronous CMOS SRAM, 64 K x 16, -40 to 85 degC, 44-Pin SOP (TSOP-2-44), Pb-Free; Manufacturer: Integrated Silicon Solution Inc (ISSI); PartNumber: IS61WV6416DBLL-10TLI-TR; Density: 1M; Organization: 64K x 16; Packing: Tape & Reel; Speed (ns): 10; DatasheetVersion: Rev. A; PackageVersion: Rev. F, 06/2008; PackageReference: TSOP-2-44; PackageDescription: 44-Pin 400 mil TSOP-2, Body 18.41 x 10.16 mm, Pitch 0.8 mm; Supplier 1: Mouser; Supplier Part Number 1: 870-61WV6416DB10TLIT; RoHS: Pb-Free; Mounting Technology: Surface Mount; ComponentLink1Description: Manufacturer URL; ComponentLink1URL: http://www.issi.com/US/index.shtml; ComponentLink2Description: Datasheet; ComponentLink2URL: http://www.issi.com/WW/pdf/61-64WV6416DAxx-DBxx.pdf; ComponentLink3Description: Package Specification; ComponentLink3URL: http://www.issi.com/WW/pdf/61-64WV6416EEBLL.pdf
footprint ISSI-TSOP-2-44_N (SOP, 44-Leads, Body 18.5x10.3mm, Pitch 0.8mm, IPC Medium Density)
pins: 1 A15 (in) "Address Input", 2 A14 (in) "Address Input", 3 A13 (in) "Address Input", 4 A12 (in) "Address Input", 5 A11 (in) "Address Input", 6 ~{CE} (in) "Chip Enable Input", 7 I/O0 (io) "Data Input/Output", 8 I/O1 (io) "Data Input/Output", 9 I/O2 (io) "Data Input/Output", 10 I/O3 (io) "Data Input/Output", 11 VDD (power) "Power", 12 GND (power) "Ground", 13 I/O4 (io) "Data Input/Output", 14 I/O5 (io) "Data Input/Output", 15 I/O6 (io) "Data Input/Output", 16 I/O7 (io) "Data Input/Output", 17 ~{WE} (in) "Write Enable Input", 18 A10 (in) "Address Input", 19 A9 (in) "Address Input", 20 A8 (in) "Address Input", 21 A7 (in) "Address Input", 22 NC "No Connection", 23 NC "No Connection", 24 A6 (in) "Address Input", 25 A5 (in) "Address Input", 26 A4 (in) "Address Input", 27 A3 (in) "Address Input", 28 NC "No Connection", 29 I/O8 (io) "Data Input/Output", 30 I/O9 (io) "Data Input/Output", 31 I/O10 (io) "Data Input/Output", 32 I/O11 (io) "Data Input/Output", 33 VDD (power) "Power", 34 GND (power) "Ground", 35 I/O12 (io) "Data Input/Output", 36 I/O13 (io) "Data Input/Output", 37 I/O14 (io) "Data Input/Output", 38 I/O15 (io) "Data Input/Output", 39 ~{LB} (in) "Lower-byte Control (I/O0-I/O7)", 40 ~{UB} (in) "Upper-byte Control (I/O8-I/O15)", 41 ~{OE} (in) "Output Enable Input", 42 A2 (in) "Address Input", 43 A1 (in) "Address Input", 44 A0 (in) "Address Input"

## IS61WV6416EEBLL-8BI
designator U?
1 M High Speed Asynchronous CMOS SRAM with ECC, 64 K x 16, -40 to 85 degC, 48-Pin BGA (TF-BGA-48); Manufacturer: Integrated Silicon Solution Inc (ISSI); PartNumber: IS61WV6416EEBLL-8BI; Density: 1M; Organization: 64K x 16; Packing: Tray / Tube; Speed (ns): 8; DatasheetVersion: Rev. A; PackageVersion: Rev. C, 08/2008; PackageReference: TF-BGA-48; PackageDescription: 48-Pin 6 x 8 mm TF-BGA, Pitch 0.75 mm; Mounting Technology: Surface Mount; Code_JEDEC: MO-207; ComponentLink1Description: Manufacturer URL; ComponentLink1URL: http://www.issi.com/US/index.shtml; ComponentLink2Description: Datasheet; ComponentLink2URL: http://www.issi.com/WW/pdf/61-64WV6416EEBLL.pdf; ComponentLink3Description: Package Specification; ComponentLink3URL: http://www.issi.com/WW/pdf/61-64WV25616.pdf
footprint ISSI-TF-BGA-48-6000X8000DE (BGA, 48-Balls, Body 8x6mm, Pitch 0.75mm)
part A pins: A1 ~{LB} (in) "Lower-byte Control (I/O0-I/O7)", A2 ~{OE} (in) "Output Enable Input", A3 A0 (in) "Address Input", A4 A1 (in) "Address Input", A5 A2 (in) "Address Input", B1 I/O8 (io) "Data Input/Output", B2 ~{UB} (in) "Upper-byte Control (I/O8-I/O15)", B3 A3 (in) "Address Input", B4 A4 (in) "Address Input", B5 ~{CE} (in) "Chip Enable Input", B6 I/O0 (io) "Data Input/Output", C1 I/O9 (io) "Data Input/Output", C2 I/O10 (io) "Data Input/Output", C3 A5 (in) "Address Input", C4 A6 (in) "Address Input", C5 I/O1 (io) "Data Input/Output", C6 I/O2 (io) "Data Input/Output", D1 GND (power) "Ground", D2 I/O11 (io) "Data Input/Output", D4 A7 (in) "Address Input", D5 I/O3 (io) "Data Input/Output", D6 VDD (power) "Power", E1 VDD (power) "Power", E2 I/O12 (io) "Data Input/Output", E5 I/O4 (io) "Data Input/Output", E6 GND (power) "Ground", F1 I/O14 (io) "Data Input/Output", F2 I/O13 (io) "Data Input/Output", F3 A14 (in) "Address Input", F4 A15 (in) "Address Input", F5 I/O5 (io) "Data Input/Output", F6 I/O6 (io) "Data Input/Output", G1 I/O15 (io) "Data Input/Output", G3 A12 (in) "Address Input", G4 A13 (in) "Address Input", G5 ~{WE} (in) "Write Enable Input", G6 I/O7 (io) "Data Input/Output", H2 A8 (in) "Address Input", H3 A9 (in) "Address Input", H4 A10 (in) "Address Input", H5 A11 (in) "Address Input"
part B pins: A6 NC "No Connection", D3 NC "No Connection", E3 NC "No Connection", E4 NC "No Connection", G2 NC "No Connection", H1 NC "No Connection", H6 NC "No Connection"

## IS61WV6416EEBLL-8BI-TR
designator U?
1 M High Speed Asynchronous CMOS SRAM with ECC, 64 K x 16, -40 to 85 degC, 48-Pin BGA (TF-BGA-48); Manufacturer: Integrated Silicon Solution Inc (ISSI); PartNumber: IS61WV6416EEBLL-8BI-TR; Density: 1M; Organization: 64K x 16; Packing: Tape & Reel; Speed (ns): 8; DatasheetVersion: Rev. A; PackageVersion: Rev. C, 08/2008; PackageReference: TF-BGA-48; PackageDescription: 48-Pin 6 x 8 mm TF-BGA, Pitch 0.75 mm; Mounting Technology: Surface Mount; Code_JEDEC: MO-207; ComponentLink1Description: Manufacturer URL; ComponentLink1URL: http://www.issi.com/US/index.shtml; ComponentLink2Description: Datasheet; ComponentLink2URL: http://www.issi.com/WW/pdf/61-64WV6416EEBLL.pdf; ComponentLink3Description: Package Specification; ComponentLink3URL: http://www.issi.com/WW/pdf/61-64WV25616.pdf
footprint ISSI-TF-BGA-48-6000X8000DE (BGA, 48-Balls, Body 8x6mm, Pitch 0.75mm)
part A pins: A1 ~{LB} (in) "Lower-byte Control (I/O0-I/O7)", A2 ~{OE} (in) "Output Enable Input", A3 A0 (in) "Address Input", A4 A1 (in) "Address Input", A5 A2 (in) "Address Input", B1 I/O8 (io) "Data Input/Output", B2 ~{UB} (in) "Upper-byte Control (I/O8-I/O15)", B3 A3 (in) "Address Input", B4 A4 (in) "Address Input", B5 ~{CE} (in) "Chip Enable Input", B6 I/O0 (io) "Data Input/Output", C1 I/O9 (io) "Data Input/Output", C2 I/O10 (io) "Data Input/Output", C3 A5 (in) "Address Input", C4 A6 (in) "Address Input", C5 I/O1 (io) "Data Input/Output", C6 I/O2 (io) "Data Input/Output", D1 GND (power) "Ground", D2 I/O11 (io) "Data Input/Output", D4 A7 (in) "Address Input", D5 I/O3 (io) "Data Input/Output", D6 VDD (power) "Power", E1 VDD (power) "Power", E2 I/O12 (io) "Data Input/Output", E5 I/O4 (io) "Data Input/Output", E6 GND (power) "Ground", F1 I/O14 (io) "Data Input/Output", F2 I/O13 (io) "Data Input/Output", F3 A14 (in) "Address Input", F4 A15 (in) "Address Input", F5 I/O5 (io) "Data Input/Output", F6 I/O6 (io) "Data Input/Output", G1 I/O15 (io) "Data Input/Output", G3 A12 (in) "Address Input", G4 A13 (in) "Address Input", G5 ~{WE} (in) "Write Enable Input", G6 I/O7 (io) "Data Input/Output", H2 A8 (in) "Address Input", H3 A9 (in) "Address Input", H4 A10 (in) "Address Input", H5 A11 (in) "Address Input"
part B pins: A6 NC "No Connection", D3 NC "No Connection", E3 NC "No Connection", E4 NC "No Connection", G2 NC "No Connection", H1 NC "No Connection", H6 NC "No Connection"

## IS61WV6416EEBLL-8BLI
designator U?
1 M High Speed Asynchronous CMOS SRAM with ECC, 64 K x 16, -40 to 85 degC, 48-Pin BGA (TF-BGA-48), Pb-Free; Manufacturer: Integrated Silicon Solution Inc (ISSI); PartNumber: IS61WV6416EEBLL-8BLI; Density: 1M; Organization: 64K x 16; Packing: Tray / Tube; Speed (ns): 8; DatasheetVersion: Rev. A; PackageVersion: Rev. C, 08/2008; PackageReference: TF-BGA-48; PackageDescription: 48-Pin 6 x 8 mm TF-BGA, Pitch 0.75 mm; RoHS: Pb-Free; Mounting Technology: Surface Mount; Code_JEDEC: MO-207; ComponentLink1Description: Manufacturer URL; ComponentLink1URL: http://www.issi.com/US/index.shtml; ComponentLink2Description: Datasheet; ComponentLink2URL: http://www.issi.com/WW/pdf/61-64WV6416EEBLL.pdf; ComponentLink3Description: Package Specification; ComponentLink3URL: http://www.issi.com/WW/pdf/61-64WV25616.pdf
footprint ISSI-TF-BGA-48-6000X8000DE (BGA, 48-Balls, Body 8x6mm, Pitch 0.75mm)
part A pins: A1 ~{LB} (in) "Lower-byte Control (I/O0-I/O7)", A2 ~{OE} (in) "Output Enable Input", A3 A0 (in) "Address Input", A4 A1 (in) "Address Input", A5 A2 (in) "Address Input", B1 I/O8 (io) "Data Input/Output", B2 ~{UB} (in) "Upper-byte Control (I/O8-I/O15)", B3 A3 (in) "Address Input", B4 A4 (in) "Address Input", B5 ~{CE} (in) "Chip Enable Input", B6 I/O0 (io) "Data Input/Output", C1 I/O9 (io) "Data Input/Output", C2 I/O10 (io) "Data Input/Output", C3 A5 (in) "Address Input", C4 A6 (in) "Address Input", C5 I/O1 (io) "Data Input/Output", C6 I/O2 (io) "Data Input/Output", D1 GND (power) "Ground", D2 I/O11 (io) "Data Input/Output", D4 A7 (in) "Address Input", D5 I/O3 (io) "Data Input/Output", D6 VDD (power) "Power", E1 VDD (power) "Power", E2 I/O12 (io) "Data Input/Output", E5 I/O4 (io) "Data Input/Output", E6 GND (power) "Ground", F1 I/O14 (io) "Data Input/Output", F2 I/O13 (io) "Data Input/Output", F3 A14 (in) "Address Input", F4 A15 (in) "Address Input", F5 I/O5 (io) "Data Input/Output", F6 I/O6 (io) "Data Input/Output", G1 I/O15 (io) "Data Input/Output", G3 A12 (in) "Address Input", G4 A13 (in) "Address Input", G5 ~{WE} (in) "Write Enable Input", G6 I/O7 (io) "Data Input/Output", H2 A8 (in) "Address Input", H3 A9 (in) "Address Input", H4 A10 (in) "Address Input", H5 A11 (in) "Address Input"
part B pins: A6 NC "No Connection", D3 NC "No Connection", E3 NC "No Connection", E4 NC "No Connection", G2 NC "No Connection", H1 NC "No Connection", H6 NC "No Connection"

## IS61WV6416EEBLL-8BLI-TR
designator U?
1 M High Speed Asynchronous CMOS SRAM with ECC, 64 K x 16, -40 to 85 degC, 48-Pin BGA (TF-BGA-48), Pb-Free; Manufacturer: Integrated Silicon Solution Inc (ISSI); PartNumber: IS61WV6416EEBLL-8BLI-TR; Density: 1M; Organization: 64K x 16; Packing: Tape & Reel; Speed (ns): 8; DatasheetVersion: Rev. A; PackageVersion: Rev. C, 08/2008; PackageReference: TF-BGA-48; PackageDescription: 48-Pin 6 x 8 mm TF-BGA, Pitch 0.75 mm; RoHS: Pb-Free; Mounting Technology: Surface Mount; Code_JEDEC: MO-207; ComponentLink1Description: Manufacturer URL; ComponentLink1URL: http://www.issi.com/US/index.shtml; ComponentLink2Description: Datasheet; ComponentLink2URL: http://www.issi.com/WW/pdf/61-64WV6416EEBLL.pdf; ComponentLink3Description: Package Specification; ComponentLink3URL: http://www.issi.com/WW/pdf/61-64WV25616.pdf
footprint ISSI-TF-BGA-48-6000X8000DE (BGA, 48-Balls, Body 8x6mm, Pitch 0.75mm)
part A pins: A1 ~{LB} (in) "Lower-byte Control (I/O0-I/O7)", A2 ~{OE} (in) "Output Enable Input", A3 A0 (in) "Address Input", A4 A1 (in) "Address Input", A5 A2 (in) "Address Input", B1 I/O8 (io) "Data Input/Output", B2 ~{UB} (in) "Upper-byte Control (I/O8-I/O15)", B3 A3 (in) "Address Input", B4 A4 (in) "Address Input", B5 ~{CE} (in) "Chip Enable Input", B6 I/O0 (io) "Data Input/Output", C1 I/O9 (io) "Data Input/Output", C2 I/O10 (io) "Data Input/Output", C3 A5 (in) "Address Input", C4 A6 (in) "Address Input", C5 I/O1 (io) "Data Input/Output", C6 I/O2 (io) "Data Input/Output", D1 GND (power) "Ground", D2 I/O11 (io) "Data Input/Output", D4 A7 (in) "Address Input", D5 I/O3 (io) "Data Input/Output", D6 VDD (power) "Power", E1 VDD (power) "Power", E2 I/O12 (io) "Data Input/Output", E5 I/O4 (io) "Data Input/Output", E6 GND (power) "Ground", F1 I/O14 (io) "Data Input/Output", F2 I/O13 (io) "Data Input/Output", F3 A14 (in) "Address Input", F4 A15 (in) "Address Input", F5 I/O5 (io) "Data Input/Output", F6 I/O6 (io) "Data Input/Output", G1 I/O15 (io) "Data Input/Output", G3 A12 (in) "Address Input", G4 A13 (in) "Address Input", G5 ~{WE} (in) "Write Enable Input", G6 I/O7 (io) "Data Input/Output", H2 A8 (in) "Address Input", H3 A9 (in) "Address Input", H4 A10 (in) "Address Input", H5 A11 (in) "Address Input"
part B pins: A6 NC "No Connection", D3 NC "No Connection", E3 NC "No Connection", E4 NC "No Connection", G2 NC "No Connection", H1 NC "No Connection", H6 NC "No Connection"

## IS61WV6416EEBLL-8TI
designator U?
1 M High Speed Asynchronous CMOS SRAM with ECC, 64 K x 16, -40 to 85 degC, 44-Pin SOP (TSOP-2-44); Manufacturer: Integrated Silicon Solution Inc (ISSI); PartNumber: IS61WV6416EEBLL-8TI; Density: 1M; Organization: 64K x 16; Packing: Tray / Tube; Speed (ns): 8; DatasheetVersion: Rev. A; PackageVersion: Rev. F, 06/2008; PackageReference: TSOP-2-44; PackageDescription: 44-Pin 400 mil TSOP-2, Body 18.41 x 10.16 mm, Pitch 0.8 mm; Mounting Technology: Surface Mount; ComponentLink1Description: Manufacturer URL; ComponentLink1URL: http://www.issi.com/US/index.shtml; ComponentLink2Description: Datasheet; ComponentLink2URL: http://www.issi.com/WW/pdf/61-64WV6416EEBLL.pdf; ComponentLink3Description: Package Specification; ComponentLink3URL: http://www.issi.com/WW/pdf/61-64WV6416EEBLL.pdf
footprint ISSI-TSOP-2-44_N (SOP, 44-Leads, Body 18.5x10.3mm, Pitch 0.8mm, IPC Medium Density)
pins: 1 A15 (in) "Address Inputs", 2 A14 (in) "Address Inputs", 3 A13 (in) "Address Inputs", 4 A12 (in) "Address Inputs", 5 A11 (in) "Address Inputs", 6 ~{CE} (in) "Chip Enable Input", 7 I/O0 (io) "Data Inputs/Outputs", 8 I/O1 (io) "Data Inputs/Outputs", 9 I/O2 (io) "Data Inputs/Outputs", 10 I/O3 (io) "Data Inputs/Outputs", 11 VDD (power) "Power", 12 GND (power) "Ground", 13 I/O4 (io) "Data Inputs/Outputs", 14 I/O5 (io) "Data Inputs/Outputs", 15 I/O6 (io) "Data Inputs/Outputs", 16 I/O7 (io) "Data Inputs/Outputs", 17 ~{WE} (in) "Write Enable Input", 18 A10 (in) "Address Inputs", 19 A9 (in) "Address Inputs", 20 A8 (in) "Address Inputs", 21 A7 (in) "Address Inputs", 22 NC "No Connection", 23 NC "No Connection", 24 A6 (in) "Address Inputs", 25 A5 (in) "Address Inputs", 26 A4 (in) "Address Inputs", 27 A3 (in) "Address Inputs", 28 NC "No Connection", 29 I/O8 (io) "Data Inputs/Outputs", 30 I/O9 (io) "Data Inputs/Outputs", 31 I/O10 (io) "Data Inputs/Outputs", 32 I/O11 (io) "Data Inputs/Outputs", 33 VDD (power) "Power", 34 GND (power) "Ground", 35 I/O12 (io) "Data Inputs/Outputs", 36 I/O13 (io) "Data Inputs/Outputs", 37 I/O14 (io) "Data Inputs/Outputs", 38 I/O15 (io) "Data Inputs/Outputs", 39 ~{LB} (in) "Lower-byte Control (I/O0-I/O7)", 40 ~{UB} (in) "Upper-byte Control (I/O8-I/O15)", 41 ~{OE} (in) "Output Enable Input", 42 A2 (in) "Address Inputs", 43 A1 (in) "Address Inputs", 44 A0 (in) "Address Inputs"

## IS61WV6416EEBLL-8TI-TR
designator U?
1 M High Speed Asynchronous CMOS SRAM with ECC, 64 K x 16, -40 to 85 degC, 44-Pin SOP (TSOP-2-44); Manufacturer: Integrated Silicon Solution Inc (ISSI); PartNumber: IS61WV6416EEBLL-8TI-TR; Density: 1M; Organization: 64K x 16; Packing: Tape & Reel; Speed (ns): 8; DatasheetVersion: Rev. A; PackageVersion: Rev. F, 06/2008; PackageReference: TSOP-2-44; PackageDescription: 44-Pin 400 mil TSOP-2, Body 18.41 x 10.16 mm, Pitch 0.8 mm; Mounting Technology: Surface Mount; ComponentLink1Description: Manufacturer URL; ComponentLink1URL: http://www.issi.com/US/index.shtml; ComponentLink2Description: Datasheet; ComponentLink2URL: http://www.issi.com/WW/pdf/61-64WV6416EEBLL.pdf; ComponentLink3Description: Package Specification; ComponentLink3URL: http://www.issi.com/WW/pdf/61-64WV6416EEBLL.pdf
footprint ISSI-TSOP-2-44_N (SOP, 44-Leads, Body 18.5x10.3mm, Pitch 0.8mm, IPC Medium Density)
pins: 1 A15 (in) "Address Inputs", 2 A14 (in) "Address Inputs", 3 A13 (in) "Address Inputs", 4 A12 (in) "Address Inputs", 5 A11 (in) "Address Inputs", 6 ~{CE} (in) "Chip Enable Input", 7 I/O0 (io) "Data Inputs/Outputs", 8 I/O1 (io) "Data Inputs/Outputs", 9 I/O2 (io) "Data Inputs/Outputs", 10 I/O3 (io) "Data Inputs/Outputs", 11 VDD (power) "Power", 12 GND (power) "Ground", 13 I/O4 (io) "Data Inputs/Outputs", 14 I/O5 (io) "Data Inputs/Outputs", 15 I/O6 (io) "Data Inputs/Outputs", 16 I/O7 (io) "Data Inputs/Outputs", 17 ~{WE} (in) "Write Enable Input", 18 A10 (in) "Address Inputs", 19 A9 (in) "Address Inputs", 20 A8 (in) "Address Inputs", 21 A7 (in) "Address Inputs", 22 NC "No Connection", 23 NC "No Connection", 24 A6 (in) "Address Inputs", 25 A5 (in) "Address Inputs", 26 A4 (in) "Address Inputs", 27 A3 (in) "Address Inputs", 28 NC "No Connection", 29 I/O8 (io) "Data Inputs/Outputs", 30 I/O9 (io) "Data Inputs/Outputs", 31 I/O10 (io) "Data Inputs/Outputs", 32 I/O11 (io) "Data Inputs/Outputs", 33 VDD (power) "Power", 34 GND (power) "Ground", 35 I/O12 (io) "Data Inputs/Outputs", 36 I/O13 (io) "Data Inputs/Outputs", 37 I/O14 (io) "Data Inputs/Outputs", 38 I/O15 (io) "Data Inputs/Outputs", 39 ~{LB} (in) "Lower-byte Control (I/O0-I/O7)", 40 ~{UB} (in) "Upper-byte Control (I/O8-I/O15)", 41 ~{OE} (in) "Output Enable Input", 42 A2 (in) "Address Inputs", 43 A1 (in) "Address Inputs", 44 A0 (in) "Address Inputs"

## IS61WV6416EEBLL-8TLI
designator U?
1 M High Speed Asynchronous CMOS SRAM with ECC, 64 K x 16, -40 to 85 degC, 44-Pin SOP (TSOP-2-44), Pb-Free; Manufacturer: Integrated Silicon Solution Inc (ISSI); PartNumber: IS61WV6416EEBLL-8TLI; Density: 1M; Organization: 64K x 16; Packing: Tray / Tube; Speed (ns): 8; DatasheetVersion: Rev. A; PackageVersion: Rev. F, 06/2008; PackageReference: TSOP-2-44; PackageDescription: 44-Pin 400 mil TSOP-2, Body 18.41 x 10.16 mm, Pitch 0.8 mm; RoHS: Pb-Free; Mounting Technology: Surface Mount; ComponentLink1Description: Manufacturer URL; ComponentLink1URL: http://www.issi.com/US/index.shtml; ComponentLink2Description: Datasheet; ComponentLink2URL: http://www.issi.com/WW/pdf/61-64WV6416EEBLL.pdf; ComponentLink3Description: Package Specification; ComponentLink3URL: http://www.issi.com/WW/pdf/61-64WV6416EEBLL.pdf
footprint ISSI-TSOP-2-44_N (SOP, 44-Leads, Body 18.5x10.3mm, Pitch 0.8mm, IPC Medium Density)
pins: 1 A15 (in) "Address Inputs", 2 A14 (in) "Address Inputs", 3 A13 (in) "Address Inputs", 4 A12 (in) "Address Inputs", 5 A11 (in) "Address Inputs", 6 ~{CE} (in) "Chip Enable Input", 7 I/O0 (io) "Data Inputs/Outputs", 8 I/O1 (io) "Data Inputs/Outputs", 9 I/O2 (io) "Data Inputs/Outputs", 10 I/O3 (io) "Data Inputs/Outputs", 11 VDD (power) "Power", 12 GND (power) "Ground", 13 I/O4 (io) "Data Inputs/Outputs", 14 I/O5 (io) "Data Inputs/Outputs", 15 I/O6 (io) "Data Inputs/Outputs", 16 I/O7 (io) "Data Inputs/Outputs", 17 ~{WE} (in) "Write Enable Input", 18 A10 (in) "Address Inputs", 19 A9 (in) "Address Inputs", 20 A8 (in) "Address Inputs", 21 A7 (in) "Address Inputs", 22 NC "No Connection", 23 NC "No Connection", 24 A6 (in) "Address Inputs", 25 A5 (in) "Address Inputs", 26 A4 (in) "Address Inputs", 27 A3 (in) "Address Inputs", 28 NC "No Connection", 29 I/O8 (io) "Data Inputs/Outputs", 30 I/O9 (io) "Data Inputs/Outputs", 31 I/O10 (io) "Data Inputs/Outputs", 32 I/O11 (io) "Data Inputs/Outputs", 33 VDD (power) "Power", 34 GND (power) "Ground", 35 I/O12 (io) "Data Inputs/Outputs", 36 I/O13 (io) "Data Inputs/Outputs", 37 I/O14 (io) "Data Inputs/Outputs", 38 I/O15 (io) "Data Inputs/Outputs", 39 ~{LB} (in) "Lower-byte Control (I/O0-I/O7)", 40 ~{UB} (in) "Upper-byte Control (I/O8-I/O15)", 41 ~{OE} (in) "Output Enable Input", 42 A2 (in) "Address Inputs", 43 A1 (in) "Address Inputs", 44 A0 (in) "Address Inputs"

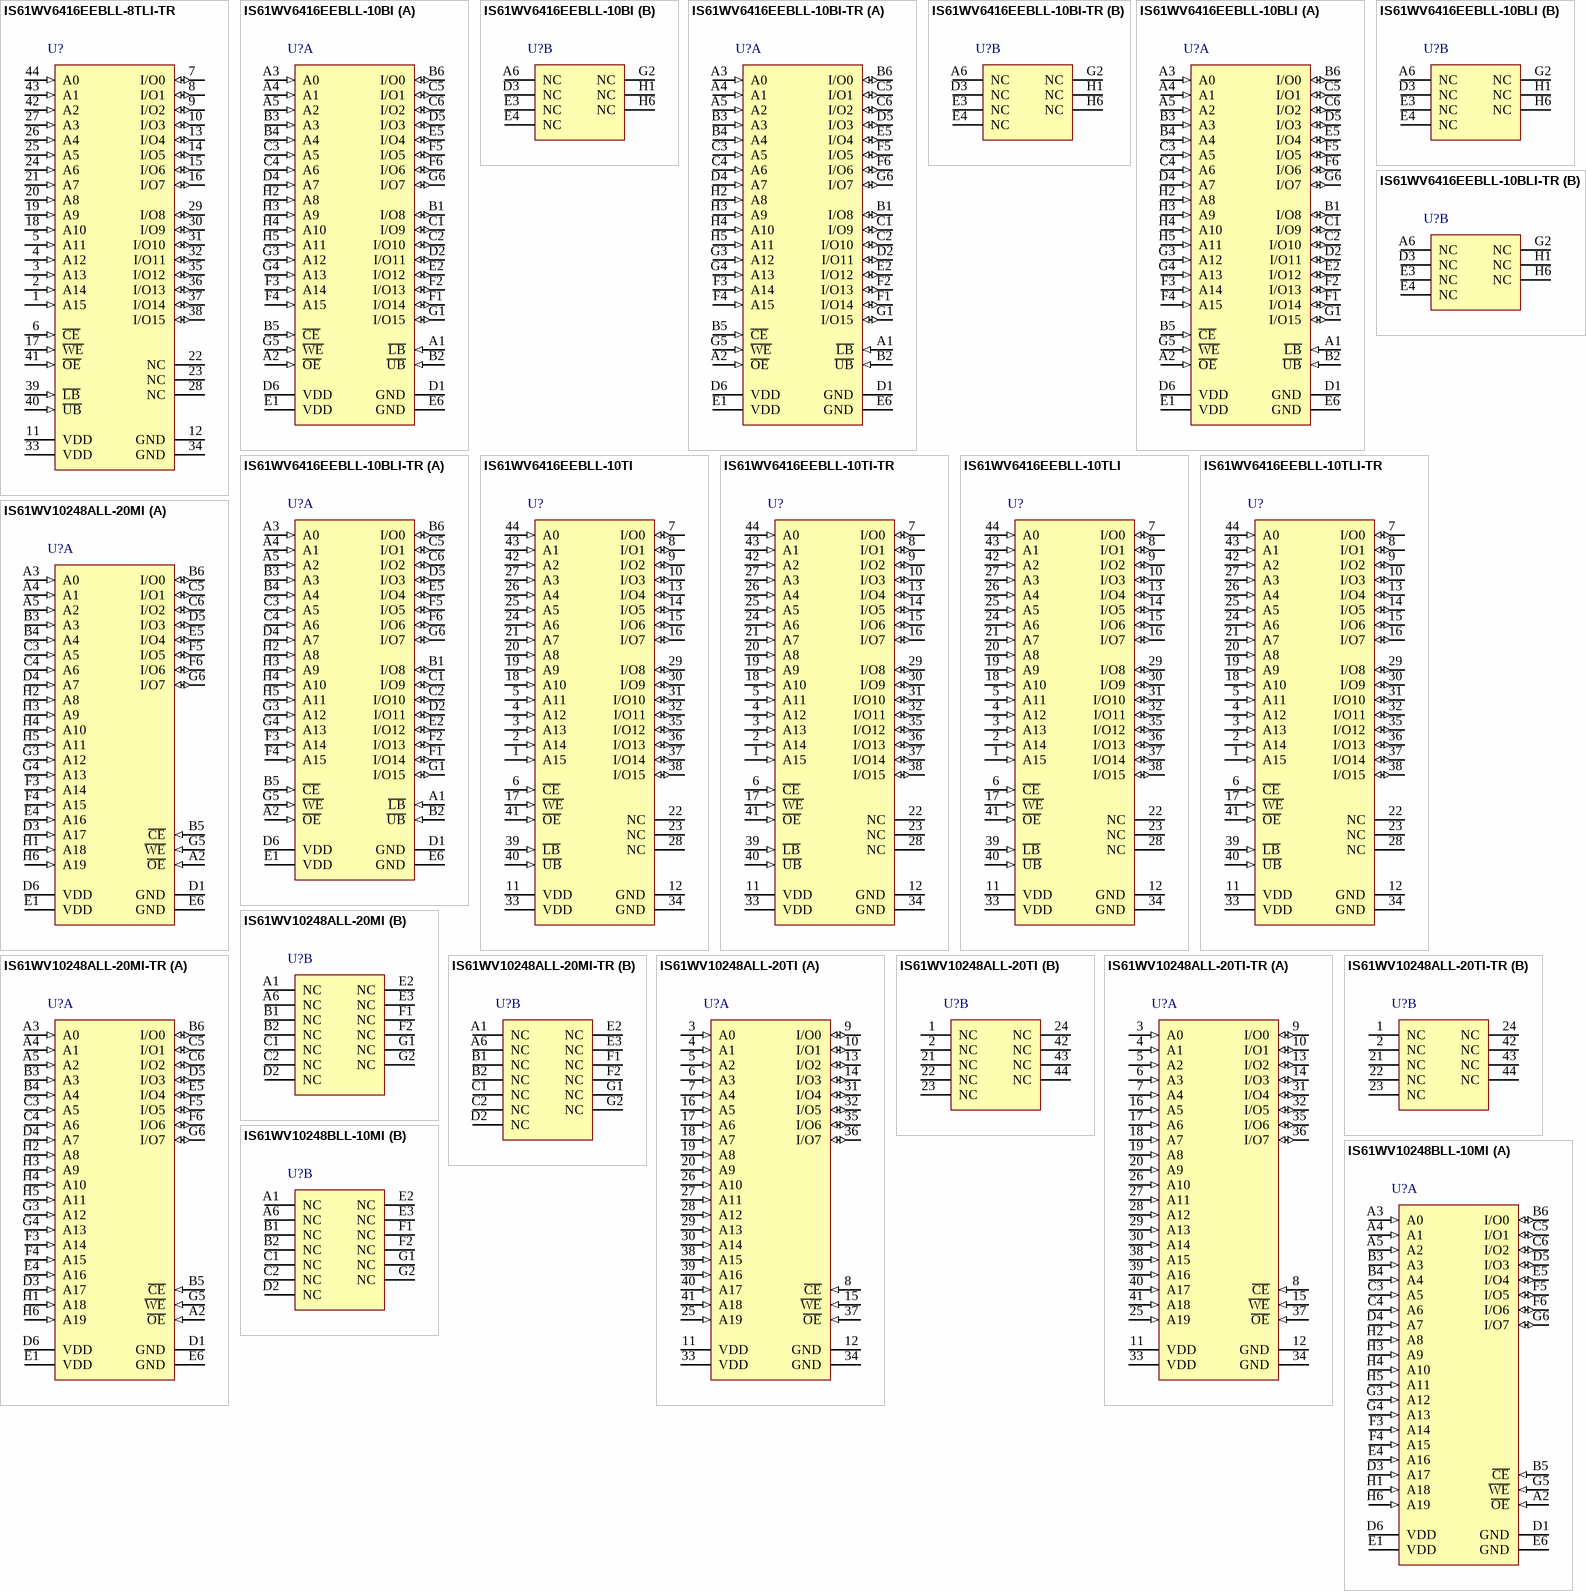
[diagram p12: symbols IS61WV6416EEBLL-8TLI-TR to IS61WV10248BLL-10MI]

## IS61WV6416EEBLL-8TLI-TR
designator U?
1 M High Speed Asynchronous CMOS SRAM with ECC, 64 K x 16, -40 to 85 degC, 44-Pin SOP (TSOP-2-44), Pb-Free; Manufacturer: Integrated Silicon Solution Inc (ISSI); PartNumber: IS61WV6416EEBLL-8TLI-TR; Density: 1M; Organization: 64K x 16; Packing: Tape & Reel; Speed (ns): 8; DatasheetVersion: Rev. A; PackageVersion: Rev. F, 06/2008; PackageReference: TSOP-2-44; PackageDescription: 44-Pin 400 mil TSOP-2, Body 18.41 x 10.16 mm, Pitch 0.8 mm; RoHS: Pb-Free; Mounting Technology: Surface Mount; ComponentLink1Description: Manufacturer URL; ComponentLink1URL: http://www.issi.com/US/index.shtml; ComponentLink2Description: Datasheet; ComponentLink2URL: http://www.issi.com/WW/pdf/61-64WV6416EEBLL.pdf; ComponentLink3Description: Package Specification; ComponentLink3URL: http://www.issi.com/WW/pdf/61-64WV6416EEBLL.pdf
footprint ISSI-TSOP-2-44_N (SOP, 44-Leads, Body 18.5x10.3mm, Pitch 0.8mm, IPC Medium Density)
pins: 1 A15 (in) "Address Inputs", 2 A14 (in) "Address Inputs", 3 A13 (in) "Address Inputs", 4 A12 (in) "Address Inputs", 5 A11 (in) "Address Inputs", 6 ~{CE} (in) "Chip Enable Input", 7 I/O0 (io) "Data Inputs/Outputs", 8 I/O1 (io) "Data Inputs/Outputs", 9 I/O2 (io) "Data Inputs/Outputs", 10 I/O3 (io) "Data Inputs/Outputs", 11 VDD (power) "Power", 12 GND (power) "Ground", 13 I/O4 (io) "Data Inputs/Outputs", 14 I/O5 (io) "Data Inputs/Outputs", 15 I/O6 (io) "Data Inputs/Outputs", 16 I/O7 (io) "Data Inputs/Outputs", 17 ~{WE} (in) "Write Enable Input", 18 A10 (in) "Address Inputs", 19 A9 (in) "Address Inputs", 20 A8 (in) "Address Inputs", 21 A7 (in) "Address Inputs", 22 NC "No Connection", 23 NC "No Connection", 24 A6 (in) "Address Inputs", 25 A5 (in) "Address Inputs", 26 A4 (in) "Address Inputs", 27 A3 (in) "Address Inputs", 28 NC "No Connection", 29 I/O8 (io) "Data Inputs/Outputs", 30 I/O9 (io) "Data Inputs/Outputs", 31 I/O10 (io) "Data Inputs/Outputs", 32 I/O11 (io) "Data Inputs/Outputs", 33 VDD (power) "Power", 34 GND (power) "Ground", 35 I/O12 (io) "Data Inputs/Outputs", 36 I/O13 (io) "Data Inputs/Outputs", 37 I/O14 (io) "Data Inputs/Outputs", 38 I/O15 (io) "Data Inputs/Outputs", 39 ~{LB} (in) "Lower-byte Control (I/O0-I/O7)", 40 ~{UB} (in) "Upper-byte Control (I/O8-I/O15)", 41 ~{OE} (in) "Output Enable Input", 42 A2 (in) "Address Inputs", 43 A1 (in) "Address Inputs", 44 A0 (in) "Address Inputs"